# Altium integrated library Texas Instruments Interface 1394.IntLib: 47 symbols (part 15 of 17)
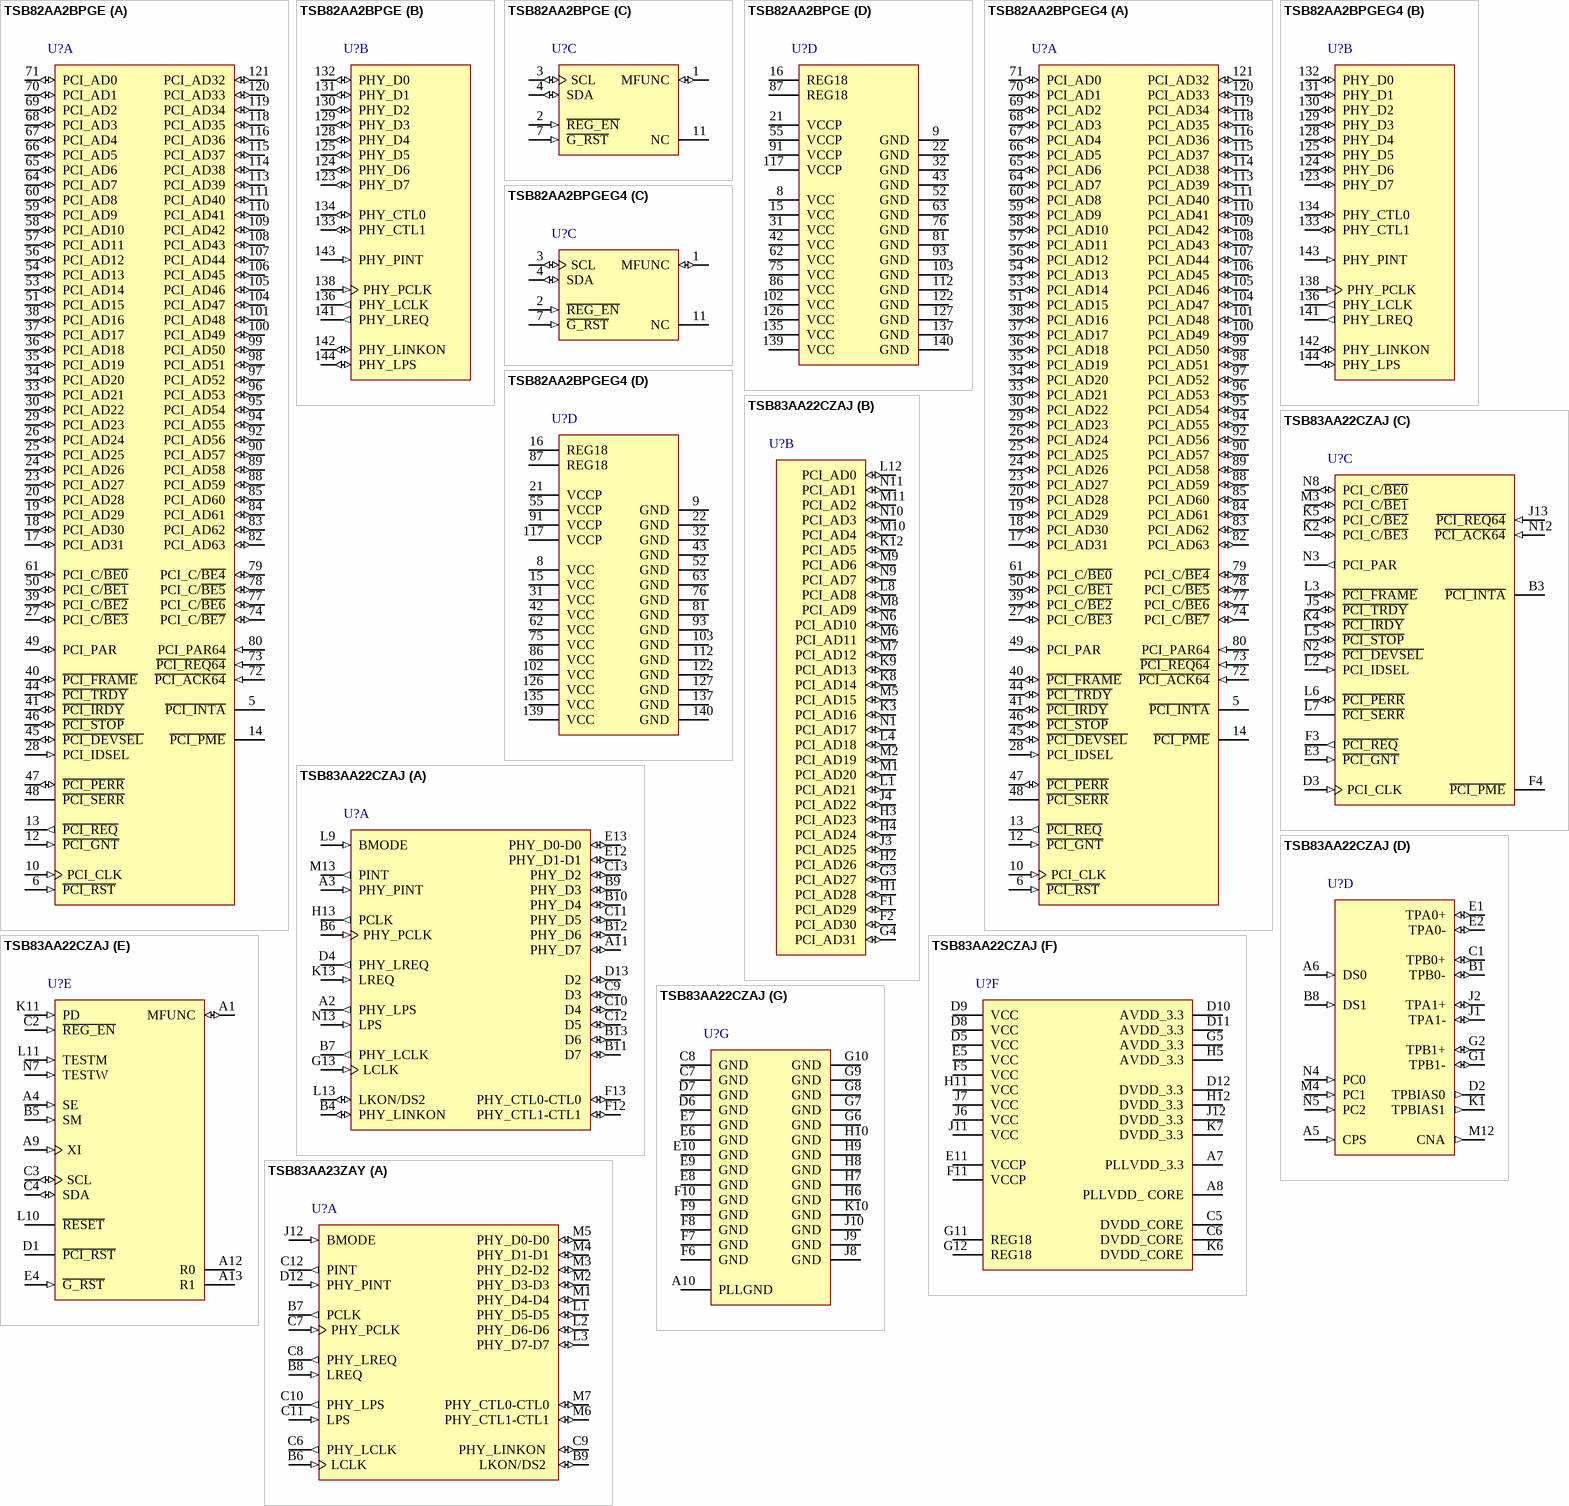
[diagram p25: symbols TSB82AA2BPGE to TSB83AA23ZAY]

## TSB83AA22CZAJ
designator U?
IEEE Std 1394b-2002 PHY and OHCI Link Device, 168-Pin NFBGA (ZAJ), Pb-Free (RoHS); PartNumber: TSB83AA22CZAJ; Manufacturer: Texas Instruments; SubFamily: 1394 Integrated Device; Speed(Max)(Mbps): 800; FIFO(kb): 9; Rating: Catalog; DatasheetVersion: SLLS802; PackageVersion: revD, Aug-2008; PackageReference: ZAJ168; PackageDescription: 168-Ball Plastic Ball Grid Array, 7 x 7 mm Body, 0.5 mm Pitch; Mounting Technology: Surface Mount; ComponentLink1Description: Datasheet; ComponentLink1URL: http://www.ti.com/general/docs/lit/getliterature.tsp?genericPartNumber=TSB83AA22C&fileType=pdf; ComponentLink2Description: Package Specification; ComponentLink2URL: http://www.ti.com/litv/pdf/mpbg703c
footprint TI-ZAJ168 (BGA, 168-Leads, Body 7x7mm, Pitch 0.5mm)
part A pins: A2 PHY_LPS (out) "LLC-section power status. [see datasheet]", A3 PHY_PINT (in) "PHY-section interrupt. PHY_PINT is a serial input to the LLC section from the PHY section that is used to transfer status, register, interrupt, and other information to the link. [see datasheet]", A11 PHY_D7 (io) "Data I/Os. These bidirectional data bus signals carry 1394 packet data, packet speed, and grant-type information between the PHY section and the LLC section. [see datasheet]", B4 PHY_LINKON (io) "Link-on notification. [see datasheet]", B6 PHY_PCLK (in) "PHY-section clock. PHY_PCLK is an input to the LLC section from the PHY section that, when active, provides a nominal 98. [see datasheet]", B7 PHY_LCLK (out) "LLC-section clock. PHY_LCLK is an output from the LLC section that is generated from the incoming PHY_PCLK signal. [see datasheet]", B9 PHY_D3 (io) "Data I/Os. These bidirectional data bus signals carry 1394 packet data, packet speed, and grant-type information between the PHY section and the LLC section. [see datasheet]", B10 PHY_D4 (io) "Data I/Os. These bidirectional data bus signals carry 1394 packet data, packet speed, and grant-type information between the PHY section and the LLC section. [see datasheet]", B11 D7 (io) "Data I/Os. These bidirectional data bus signals carry 1394 packet data, packet speed, and grant-type information between the PHY section and the LLC section. [see datasheet]", B12 PHY_D6 (io) "Data I/Os. These bidirectional data bus signals carry 1394 packet data, packet speed, and grant-type information between the PHY section and the LLC section. [see datasheet]", B13 D6 (io) "Data I/Os. These bidirectional data bus signals carry 1394 packet data, packet speed, and grant-type information between the PHY section and the LLC section. [see datasheet]", C9 D3 (io) "Data I/Os. These bidirectional data bus signals carry 1394 packet data, packet speed, and grant-type information between the PHY section and the LLC section. [see datasheet]", C10 D4 (io) "Data I/Os. These bidirectional data bus signals carry 1394 packet data, packet speed, and grant-type information between the PHY section and the LLC section. [see datasheet]", C11 PHY_D5 (io) "Data I/Os. These bidirectional data bus signals carry 1394 packet data, packet speed, and grant-type information between the PHY section and the LLC section. [see datasheet]", C12 D5 (io) "Data I/Os. These bidirectional data bus signals carry 1394 packet data, packet speed, and grant-type information between the PHY section and the LLC section. [see datasheet]", C13 PHY_D2 (io) "Data I/Os. These bidirectional data bus signals carry 1394 packet data, packet speed, and grant-type information between the PHY section and the LLC section. [see datasheet]", D4 PHY_LREQ (out) "LLC-section request. [see datasheet]", D13 D2 (io) "Data I/Os. These bidirectional data bus signals carry 1394 packet data, packet speed, and grant-type information between the PHY section and the LLC section. [see datasheet]", E12 PHY_D1-D1 (io) "Data I/Os. These bidirectional data bus signals carry 1394 packet data, packet speed, and grant-type information between the PHY section and the LLC section. [see datasheet]", E13 PHY_D0-D0 (io) "Data I/Os. These bidirectional data bus signals carry 1394 packet data, packet speed, and grant-type information between the PHY section and the LLC section. [see datasheet]", F12 PHY_CTL1-CTL1 (io) "Control I/Os. These bidirectional control bus signals indicate the phase of operation of the PHY section-LLC section interface. [see datasheet]", F13 PHY_CTL0-CTL0 (io) "Control I/Os. These bidirectional control bus signals indicate the phase of operation of the PHY section-LLC section interface. [see datasheet]", G13 LCLK (in) "LLC-section clock. 98.304-MHz clock signal to synchronize data transfers from link to the PHY when the PHY section-LLC section interface is in the IEEE Std 1394b-2002 mode. [see datasheet]", H13 PCLK (out) "PHY-section clock. Provides a 98. [see datasheet]", K13 LREQ (in) "LLC-section request. The LLC section uses this input to initiate a service request to the PHY section. This terminal must be connected to the PHY_LREQ output of the LLC section. [see datasheet]", L9 BMODE (in) "Beta-mode. This terminal determines the PHY section-LLC section interface connection protocol. [see datasheet]", L13 LKON/DS2 (io) "Link-on notification. It is necessary to pull the terminal high through a 470-W or smaller resistor. [see datasheet]", M13 PINT (out) "PHY-section interrupt. The PHY section uses this output to transfer status and interrupt information serially to the LLC section. [see datasheet]", N13 LPS (in) "LLC-section power status. This terminal monitors the active/power status of the LLC section and controls the state of the PHY section-LLC section interface. [see datasheet]"
part B pins: F1 PCI_AD29 (io) "PCI address/data bus. These signals make up the multiplexed PCI address and data on the PCI interface. [see datasheet]", F2 PCI_AD30 (io) "PCI address/data bus. These signals make up the multiplexed PCI address and data on the PCI interface. [see datasheet]", G3 PCI_AD27 (io) "PCI address/data bus. These signals make up the multiplexed PCI address and data on the PCI interface. [see datasheet]", G4 PCI_AD31 (io) "PCI address/data bus. These signals make up the multiplexed PCI address and data on the PCI interface. [see datasheet]", H1 PCI_AD28 (io) "PCI address/data bus. These signals make up the multiplexed PCI address and data on the PCI interface. [see datasheet]", H2 PCI_AD26 (io) "PCI address/data bus. These signals make up the multiplexed PCI address and data on the PCI interface. [see datasheet]", H3 PCI_AD23 (io) "PCI address/data bus. These signals make up the multiplexed PCI address and data on the PCI interface. [see datasheet]", H4 PCI_AD24 (io) "PCI address/data bus. These signals make up the multiplexed PCI address and data on the PCI interface. [see datasheet]", J3 PCI_AD25 (io) "PCI address/data bus. These signals make up the multiplexed PCI address and data on the PCI interface. [see datasheet]", J4 PCI_AD22 (io) "PCI address/data bus. These signals make up the multiplexed PCI address and data on the PCI interface. [see datasheet]", K3 PCI_AD16 (io) "PCI address/data bus. These signals make up the multiplexed PCI address and data on the PCI interface. [see datasheet]", K8 PCI_AD14 (io) "PCI address/data bus. These signals make up the multiplexed PCI address and data on the PCI interface. [see datasheet]", K9 PCI_AD13 (io) "PCI address/data bus. These signals make up the multiplexed PCI address and data on the PCI interface. [see datasheet]", K12 PCI_AD5 (io) "PCI address/data bus. These signals make up the multiplexed PCI address and data on the PCI interface. [see datasheet]", L1 PCI_AD21 (io) "PCI address/data bus. These signals make up the multiplexed PCI address and data on the PCI interface. [see datasheet]", L4 PCI_AD18 (io) "PCI address/data bus. These signals make up the multiplexed PCI address and data on the PCI interface. [see datasheet]", L8 PCI_AD8 (io) "PCI address/data bus. These signals make up the multiplexed PCI address and data on the PCI interface. [see datasheet]", L12 PCI_AD0 (io) "PCI address/data bus. These signals make up the multiplexed PCI address and data on the PCI interface. [see datasheet]", M1 PCI_AD20 (io) "PCI address/data bus. These signals make up the multiplexed PCI address and data on the PCI interface. [see datasheet]", M2 PCI_AD19 (io) "PCI address/data bus. These signals make up the multiplexed PCI address and data on the PCI interface. [see datasheet]", M5 PCI_AD15 (io) "PCI address/data bus. These signals make up the multiplexed PCI address and data on the PCI interface. [see datasheet]", M6 PCI_AD11 (io) "PCI address/data bus. These signals make up the multiplexed PCI address and data on the PCI interface. [see datasheet]", M7 PCI_AD12 (io) "PCI address/data bus. These signals make up the multiplexed PCI address and data on the PCI interface. [see datasheet]", M8 PCI_AD9 (io) "PCI address/data bus. These signals make up the multiplexed PCI address and data on the PCI interface. [see datasheet]", M9 PCI_AD6 (io) "PCI address/data bus. These signals make up the multiplexed PCI address and data on the PCI interface. [see datasheet]", M10 PCI_AD4 (io) "PCI address/data bus. These signals make up the multiplexed PCI address and data on the PCI interface. [see datasheet]", M11 PCI_AD2 (io) "PCI address/data bus. These signals make up the multiplexed PCI address and data on the PCI interface. [see datasheet]", N1 PCI_AD17 (io) "PCI address/data bus. These signals make up the multiplexed PCI address and data on the PCI interface. [see datasheet]", N6 PCI_AD10 (io) "PCI address/data bus. These signals make up the multiplexed PCI address and data on the PCI interface. [see datasheet]", N9 PCI_AD7 (io) "PCI address/data bus. These signals make up the multiplexed PCI address and data on the PCI interface. [see datasheet]", N10 PCI_AD3 (io) "PCI address/data bus. These signals make up the multiplexed PCI address and data on the PCI interface. [see datasheet]", N11 PCI_AD1 (io) "PCI address/data bus. These signals make up the multiplexed PCI address and data on the PCI interface. [see datasheet]"
part C pins: B3 ~{PCI_INTA} (oc) "PCI interrupt. This output indicates interrupts from the TSB83AA22C device to the host. This terminal is implemented as open drain.", D3 PCI_CLK (in) "PCI bus clock. Provides timing for all transactions on the PCI bus. All PCI signals are sampled at the rising edge of PCI_CLK.", E3 ~{PCI_GNT} (in) "PCI bus grant. This signal is driven by the PCI bus arbiter to grant the TSB83AA22C device access to the PCI bus after the current data transaction has completed. [see datasheet]", F3 ~{PCI_REQ} (out) "PCI bus request. Asserted by the TSB83AA22C device to request access to the bus as an initiator. [see datasheet]", F4 ~{PCI_PME} (oc) "This terminal indicates wake events to the host. [see datasheet]", J5 ~{PCI_TRDY} (io) "PCI target ready. P\C\I\_\T\R\D\Y\ indicates the ability of the PCI bus target to complete the current data phase of the transaction. [see datasheet]", J13 ~{PCI_REQ64} (in) "PCI bus request for 64-bit transfer. This terminal should be pulled high to VDD through a 4.7-kohm resistor.", K2 PCI_C/~{BE3} (io) "PCI bus commands and byte enables. The command and byte enable signals are multiplexed on the same PCI terminals. [see datasheet]", K4 ~{PCI_IRDY} (io) "PCI initiator ready. P\C\I\_\I\R\D\Y\ indicates the ability of the PCI bus initiator to complete the current data phase of the transaction. [see datasheet]", K5 PCI_C/~{BE2} (io) "PCI bus commands and byte enables. The command and byte enable signals are multiplexed on the same PCI terminals. [see datasheet]", L2 PCI_IDSEL (in) "PCI initialization device select. PCI_IDSEL selects the TSB83AA22C device during configuration space accesses. [see datasheet]", L3 ~{PCI_FRAME} (io) "PCI cycle frame. This signal is driven by the initiator of a PCI bus cycle. [see datasheet]", L5 ~{PCI_STOP} (io) "PCI cycle stop. This signal is driven by a PCI target to request the initiator to stop the current PCI bus transaction. [see datasheet]", L6 ~{PCI_PERR} (io) "PCI parity error indicator. [see datasheet]", L7 ~{PCI_SERR} (oc) "PCI system error. When SERR_ENB (bit 8) in the command register at offset 04h in the PCI configuration space (see Section 6.1. [see datasheet]", M3 PCI_C/~{BE1} (io) "PCI bus commands and byte enables. The command and byte enable signals are multiplexed on the same PCI terminals. [see datasheet]", N2 ~{PCI_DEVSEL} (io) "PCI device select. The TSB83AA22C device asserts this signal to claim a PCI cycle as the target device. [see datasheet]", N3 PCI_PAR (out) "PCI parity. In all PCI bus read and write cycles, the TSB83AA22C device calculates even parity across the PCI_AD31-PCI_AD0 and PCI_C/B\E\0\-PCI_C/B\E\3\ buses. [see datasheet]", N8 PCI_C/~{BE0} (io) "PCI bus commands and byte enables. The command and byte enable signals are multiplexed on the same PCI terminals. [see datasheet]", N12 ~{PCI_ACK64} (in) "PCI bus 64-bit transfer acknowledge. This terminal should be pulled high to VDD through a 4.7-kohm resistor."
part D pins: A5 CPS (in) "Cable power status. This terminal is normally connected to cable power through a 400-kohm resistor. This circuit drives an internal comparator that detects the presence of cable power. [see datasheet]", A6 DS0 (in) "Data-strobe-only mode for port 0. IEEE Std 1394a-2000-only port-0-enable programming terminal. [see datasheet]", B1 TPB0- (io) "Port 0 twisted-pair differential signal. [see datasheet]", B8 DS1 (in) "Data-strobe-only mode for port 1. IEEE Std 1394a-2000-only port-1-enable programming terminal. [see datasheet]", C1 TPB0+ (io) "Port 0 twisted-pair differential signal. [see datasheet]", D2 TPBIAS0 (out) "Twisted-pair bias output. This provides the 1. [see datasheet]", E1 TPA0+ (io) "Port 0 twisted-pair differential signal. [see datasheet]", E2 TPA0- (io) "Port 0 twisted-pair differential signal. [see datasheet]", G1 TPB1- (io) "Port 1 twisted-pair differential signal. [see datasheet]", G2 TPB1+ (io) "Port 1 twisted-pair differential signal. [see datasheet]", J1 TPA1- (io) "Port 1 twisted-pair differential signal. [see datasheet]", J2 TPA1+ (io) "Port 1 twisted-pair differential signal. [see datasheet]", K1 TPBIAS1 (out) "Twisted-pair bias output. This provides the 1. [see datasheet]", M4 PC1 (in) "Power class programming. On hardware reset, these inputs set the default value of the power class indicated during self-ID. [see datasheet]", M12 CNA (out) "Cable not active. This terminal is asserted high when there are no ports receiving incoming bias voltage. When any port receives bias, this terminal goes low.", N4 PC0 (in) "Power class programming. On hardware reset, these inputs set the default value of the power class indicated during self-ID. [see datasheet]", N5 PC2 (in) "Power class programming. On hardware reset, these inputs set the default value of the power class indicated during self-ID. [see datasheet]"
part E pins: A1 MFUNC (io) "Multifunction. [see datasheet]", A4 SE (in) "Test control. This input is used in the manufacturing test of the TSB83AA22C. [see datasheet]", A9 XI (in) "Oscillator input. This terminal connects to a 98.304-MHz low-jitter external oscillator. XI is a 1.8-V CMOS input. Oscillator jitter must be 5-ps RMS or better. If only 3. [see datasheet]", A12 R0 "Current-setting resistor. These terminals are connected to a precision external resistance to set the internal operating currents and cable driver output currents. A resistance of 6. [see datasheet]", A13 R1 "Current-setting resistor. These terminals are connected to a precision external resistance to set the internal operating currents and cable driver output currents. A resistance of 6. [see datasheet]", B5 SM (in) "Test control. This input is used in the manufacturing test of the TSB83AA22C. [see datasheet]", C2 ~{REG_EN} (in) "Regulator enable. When this terminal is low, the internal 1.8-V regulator is enabled and generates the 1.8-V internal core voltage from the 3.3-V supply voltage. [see datasheet]", C3 SCL (io) "Serial clock. This terminal provides the SCL serial clock signaling. ROM is implemented: Connect terminal 3 to the SCL terminal on the ROM; the 2. [see datasheet]", C4 SDA (io) "Serial data. This terminal provides the SDA serial data signaling. [see datasheet]", D1 ~{PCI_RST} (hiz) "PCI reset. [see datasheet]", E4 ~{G_RST} (in) "Global power reset. This reset brings all of the TSB83AA22C internal LLC-section registers to their default states, including those registers not reset by P\C\I\_\R\S\T\. [see datasheet]", K11 PD (in) "Power down. A high on this terminal turns off all internal circuitry, except the cable-active monitor circuits that control the CNA output. [see datasheet]", L10 ~{RESET} (oc) "Logic reset. Asserting this terminal low resets the internal logic. [see datasheet]", L11 TESTM (in) "Test control. This input is used in the manufacturing test of the TSB83AA22C. For normal use, this terminal must be pulled high through a 1-kohm resistor to VDD.", N7 TESTW (in) "Test control. This input is used in the manufacturing test of the TSB83AA22C. For normal use, this terminal must be pulled high through a 1-kohm resistor to VDD."
part F pins: A7 PLLVDD_3.3 (power) "PLL 3.3-V circuit power. A combination of high-frequency decoupling capacitors near the terminal is suggested, such as paralleled 0.1-mF and 0.001-mF. [see datasheet]", A8 PLLVDD_ CORE (power) "PLL 1.95-V circuit power. A combination of high-frequency decoupling capacitors near each terminal is suggested, such as paralleled 0.1-mF and 0.001-mF. [see datasheet]", C5 DVDD_CORE (power) "Digital 1.95-V circuit power. A combination of high-frequency decoupling capacitors near each terminal is suggested, such as paralleled 0.1-uF and 0.001-uF. [see datasheet]", C6 DVDD_CORE (power) "Digital 1.95-V circuit power. A combination of high-frequency decoupling capacitors near each terminal is suggested, such as paralleled 0.1-uF and 0.001-uF. [see datasheet]", D5 VCC (power) "3.3-V power supply. A parallel combination of high-frequency decoupling capacitors near each terminal is suggested, such as 0.1-uF and 0.001-uF. [see datasheet]", D8 VCC (power) "3.3-V power supply. A parallel combination of high-frequency decoupling capacitors near each terminal is suggested, such as 0.1-uF and 0.001-uF. [see datasheet]", D9 VCC (power) "3.3-V power supply. A parallel combination of high-frequency decoupling capacitors near each terminal is suggested, such as 0.1-uF and 0.001-uF. [see datasheet]", D10 AVDD_3.3 (power) "Analog circuit power. A combination of high-frequency decoupling capacitors near each terminal is suggested, such as paralleled 0.1-uF and 0.001-uF. [see datasheet]", D11 AVDD_3.3 (power) "Analog circuit power. A combination of high-frequency decoupling capacitors near each terminal is suggested, such as paralleled 0.1-uF and 0.001-uF. [see datasheet]", D12 DVDD_3.3 (power) "Digital 3.3-V circuit power. A combination of high-frequency decoupling capacitors near each terminal is suggested, such as paralleled 0.1-uF and 0.001-uF.. [see datasheet]", E5 VCC (power) "3.3-V power supply. A parallel combination of high-frequency decoupling capacitors near each terminal is suggested, such as 0.1-uF and 0.001-uF. [see datasheet]", E11 VCCP (power) "PCI signaling clamp voltage power. PCI signals are clamped per the PCI Local Bus Specification. In addition, if a 5-V ROM is used, the VCCP terminal must be connected to 5 V.", F5 VCC (power) "3.3-V power supply. A parallel combination of high-frequency decoupling capacitors near each terminal is suggested, such as 0.1-uF and 0.001-uF. [see datasheet]", F11 VCCP (power) "PCI signaling clamp voltage power. PCI signals are clamped per the PCI Local Bus Specification. In addition, if a 5-V ROM is used, the VCCP terminal must be connected to 5 V", G5 AVDD_3.3 (power) "Analog circuit power. A combination of high-frequency decoupling capacitors near each terminal is suggested, such as paralleled 0.1-uF and 0.001-uF. [see datasheet]", G11 REG18 (power) "The REG18 terminals are connected to the internal 1.8-V LLC-section core voltage. They provide local bypass for the internal core voltage or to provide 1. [see datasheet]", G12 REG18 (power) "The REG18 terminals are connected to the internal 1.8-V LLC-section core voltage. They provide local bypass for the internal core voltage or to provide 1. [see datasheet]", H5 AVDD_3.3 (power) "Analog circuit power. A combination of high-frequency decoupling capacitors near each terminal is suggested, such as paralleled 0.1-uF and 0.001-uF. [see datasheet]", H11 VCC (power) "3.3-V power supply. A parallel combination of high-frequency decoupling capacitors near each terminal is suggested, such as 0.1-uF and 0.001-uF. [see datasheet]", H12 DVDD_3.3 (power) "Digital 3.3-V circuit power. A combination of high-frequency decoupling capacitors near each terminal is suggested, such as paralleled 0.1-uF and 0.001-uF.. [see datasheet]", J6 VCC (power) "3.3-V power supply. A parallel combination of high-frequency decoupling capacitors near each terminal is suggested, such as 0.1-uF and 0.001-uF. [see datasheet]", J7 VCC (power) "3.3-V power supply. A parallel combination of high-frequency decoupling capacitors near each terminal is suggested, such as 0.1-uF and 0.001-uF. [see datasheet]", J11 VCC (power) "3.3-V power supply. A parallel combination of high-frequency decoupling capacitors near each terminal is suggested, such as 0.1-uF and 0.001-uF. [see datasheet]", J12 DVDD_3.3 (power) "Digital 3.3-V circuit power. A combination of high-frequency decoupling capacitors near each terminal is suggested, such as paralleled 0.1-uF and 0.001-uF.. [see datasheet]", K6 DVDD_CORE (power) "Digital 1.95-V circuit power. A combination of high-frequency decoupling capacitors near each terminal is suggested, such as paralleled 0.1-uF and 0.001-uF. [see datasheet]", K7 DVDD_3.3 (power) "Digital 3.3-V circuit power. A combination of high-frequency decoupling capacitors near each terminal is suggested, such as paralleled 0.1-uF and 0.001-uF.. [see datasheet]"
part G pins: A10 PLLGND (power) "PLL circuit ground. These terminals must be tied together to the low-impedance circuit-board ground plane.", C7 GND (power) "Ground. These terminals must be tied together to the low-impedance circuit-board ground plane.", C8 GND (power) "Ground. These terminals must be tied together to the low-impedance circuit-board ground plane.", D6 GND (power) "Ground. These terminals must be tied together to the low-impedance circuit-board ground plane.", D7 GND (power) "Ground. These terminals must be tied together to the low-impedance circuit-board ground plane.", E6 GND (power) "Ground. These terminals must be tied together to the low-impedance circuit-board ground plane.", E7 GND (power) "Ground. These terminals must be tied together to the low-impedance circuit-board ground plane.", E8 GND (power) "Ground. These terminals must be tied together to the low-impedance circuit-board ground plane.", E9 GND (power) "Ground. These terminals must be tied together to the low-impedance circuit-board ground plane.", E10 GND (power) "Ground. These terminals must be tied together to the low-impedance circuit-board ground plane.", F6 GND (power) "Ground. These terminals must be tied together to the low-impedance circuit-board ground plane.", F7 GND (power) "Ground. These terminals must be tied together to the low-impedance circuit-board ground plane.", F8 GND (power) "Ground. These terminals must be tied together to the low-impedance circuit-board ground plane.", F9 GND (power) "Ground. These terminals must be tied together to the low-impedance circuit-board ground plane.", F10 GND (power) "Ground. These terminals must be tied together to the low-impedance circuit-board ground plane.", G6 GND (power) "Ground. These terminals must be tied together to the low-impedance circuit-board ground plane.", G7 GND (power) "Ground. These terminals must be tied together to the low-impedance circuit-board ground plane.", G8 GND (power) "Ground. These terminals must be tied together to the low-impedance circuit-board ground plane.", G9 GND (power) "Ground. These terminals must be tied together to the low-impedance circuit-board ground plane.", G10 GND (power) "Ground. These terminals must be tied together to the low-impedance circuit-board ground plane.", H6 GND (power) "Ground. These terminals must be tied together to the low-impedance circuit-board ground plane.", H7 GND (power) "Ground. These terminals must be tied together to the low-impedance circuit-board ground plane.", H8 GND (power) "Ground. These terminals must be tied together to the low-impedance circuit-board ground plane.", H9 GND (power) "Ground. These terminals must be tied together to the low-impedance circuit-board ground plane.", H10 GND (power) "Ground. These terminals must be tied together to the low-impedance circuit-board ground plane.", J8 GND (power) "Ground. These terminals must be tied together to the low-impedance circuit-board ground plane.", J9 GND (power) "Ground. These terminals must be tied together to the low-impedance circuit-board ground plane.", J10 GND (power) "Ground. These terminals must be tied together to the low-impedance circuit-board ground plane.", K10 GND (power) "Ground. These terminals must be tied together to the low-impedance circuit-board ground plane."

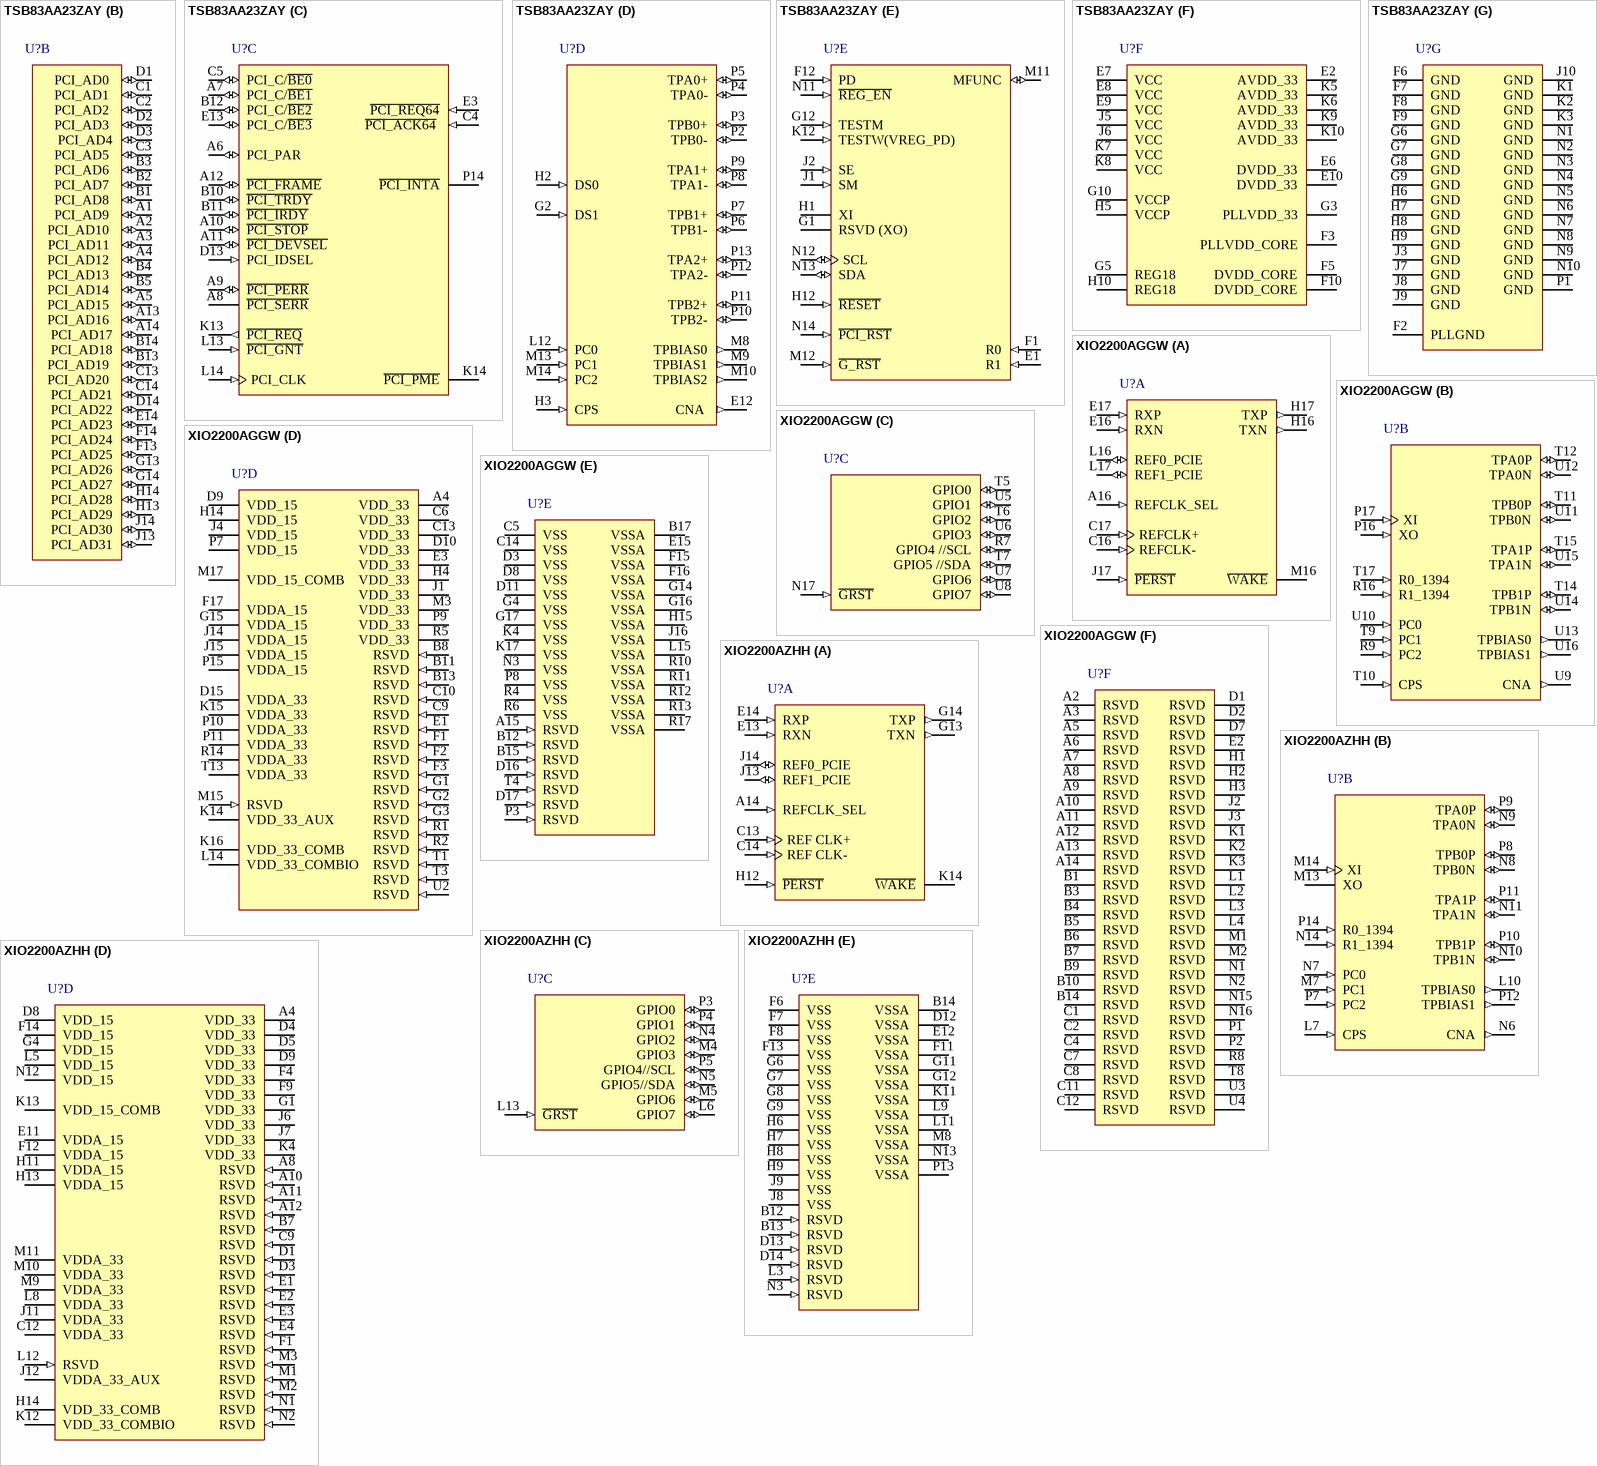
[diagram p9: symbols TSB83AA23ZAY to XIO2200AZHH]

## TSB83AA23ZAY
designator U?
IEEE Std 1394b-2002 PHY and OHCI Link Device, 0 to 70 degC, 167-Pin NFBGA (ZAY), Pb-Free (RoHS); PartNumber: TSB83AA23ZAY; Manufacturer: Texas Instruments; SubFamily: 1394 Integrated Device; Speed(Max)(Mbps): 800; FIFO(kb): 9; Rating: Catalog; DatasheetVersion: SLLU099B; PackageVersion: revC, Sep-2010; PackageReference: ZAY167; PackageDescription: 167-Ball Plastic Ball Grid Array, 12 x 12 mm Body, 0.8 mm Pitch; Mounting Technology: Surface Mount; Operating Temperature Range(C): 0 to 70; ComponentLink1Description: Datasheet; ComponentLink1URL: http://www.ti.com/general/docs/lit/getliterature.tsp?genericPartNumber=TSB83AA23&fileType=pdf; ComponentLink2Description: Package Specification; ComponentLink2URL: http://www.ti.com/litv/pdf/mpbg782b
footprint TI-ZAY167 (BGA, 167-Leads, Body 12x12mm, Pitch 0.8mm)
part A pins: B6 LCLK  (in) "LLC-section clock. 98.304-MHz clock signal to synchronize data transfers from the link layer to the PHY when the PHY section-LLC section interface is in the IEEE Std 1394b-2002 mode. [see datasheet]", B7 PCLK  (out) "PHY-section clock. Provides a 98. [see datasheet]", B8 LREQ  (in) "LLC-section request. The LLC section uses this input to initiate a service request to the PHY section. This terminal must be connected to the PHY_LREQ output of the LLC section. [see datasheet]", B9 LKON/DS2  (io) "Link-on notification/Data-Strobe-only select. It is necessary to pull the terminal high through a 470-W or smaller resistor. [see datasheet]", C6 PHY_LCLK  (out) "LLC-section clock. PHY_LCLK is an output from the LLC section that is generated from the incoming PHY_PCLK signal. [see datasheet]", C7 PHY_PCLK  (in) "PHY-section clock. PHY_PCLK is an input to the LLC section from the PHY section that, when active, provides a nominal 98. [see datasheet]", C8 PHY_LREQ  (out) "LLC-section request. [see datasheet]", C9 PHY_LINKON  (io) "Link-on notification. [see datasheet]", C10 PHY_LPS  (out) "LLC-section power status. [see datasheet]", C11 LPS  (in) "LLC-section power status. This terminal monitors the active/power status of the LLC section and controls the state of the PHY section-LLC section interface. [see datasheet]", C12 PINT  (out) "PHY-section interrupt. The PHY section uses this output to transfer status and interrupt information serially to the LLC section. [see datasheet]", D12 PHY_PINT  (in) "PHY-section interrupt. PHY_PINT is a serial input to the LLC section from the PHY section that is used to transfer status, register, interrupt, and other information to the link. [see datasheet]", J12 BMODE (in) "Beta-mode. This terminal determines the PHY section-LLC section interface connection protocol. [see datasheet]", L1 PHY_D5-D5 (io) "Data I/Os. These bidirectional data bus signals carry 1394 packet data, packet speed, and grant-type information between the PHY section and the LLC section. [see datasheet]", L2 PHY_D6-D6 (io) "Data I/Os. These bidirectional data bus signals carry 1394 packet data, packet speed, and grant-type information between the PHY section and the LLC section. [see datasheet]", L3 PHY_D7-D7 (io) "Data I/Os. These bidirectional data bus signals carry 1394 packet data, packet speed, and grant-type information between the PHY section and the LLC section. [see datasheet]", M1 PHY_D4-D4 (io) "Data I/Os. These bidirectional data bus signals carry 1394 packet data, packet speed, and grant-type information between the PHY section and the LLC section. [see datasheet]", M2 PHY_D3-D3 (io) "Data I/Os. These bidirectional data bus signals carry 1394 packet data, packet speed, and grant-type information between the PHY section and the LLC section. [see datasheet]", M3 PHY_D2-D2 (io) "Data I/Os. These bidirectional data bus signals carry 1394 packet data, packet speed, and grant-type information between the PHY section and the LLC section. [see datasheet]", M4 PHY_D1-D1 (io) "Data I/Os. These bidirectional data bus signals carry 1394 packet data, packet speed, and grant-type information between the PHY section and the LLC section. [see datasheet]", M5 PHY_D0-D0 (io) "Data I/Os. These bidirectional data bus signals carry 1394 packet data, packet speed, and grant-type information between the PHY section and the LLC section. [see datasheet]", M6 PHY_CTL1-CTL1 (io) "Control I/Os. These bidirectional control bus signals indicate the phase of operation of the  PHY section-LLC section interface. [see datasheet]", M7 PHY_CTL0-CTL0 (io) "Control I/Os. These bidirectional control bus signals indicate the phase of operation of the  PHY section-LLC section interface. [see datasheet]"
part B pins: A1 PCI_AD9  (io) "PCI address/data bus.These signals make up the multiplexed PCI address and data on the PCI interface. [see datasheet]", A2 PCI_AD10  (io) "PCI address/data bus.These signals make up the multiplexed PCI address and data on the PCI interface. [see datasheet]", A3 PCI_AD11  (io) "PCI address/data bus.These signals make up the multiplexed PCI address and data on the PCI interface. [see datasheet]", A4 PCI_AD12  (io) "PCI address/data bus.These signals make up the multiplexed PCI address and data on the PCI interface. [see datasheet]", A5 PCI_AD15  (io) "PCI address/data bus.These signals make up the multiplexed PCI address and data on the PCI interface. [see datasheet]", A13 PCI_AD16  (io) "PCI address/data bus.These signals make up the multiplexed PCI address and data on the PCI interface. [see datasheet]", A14 PCI_AD17 (io) "PCI address/data bus.These signals make up the multiplexed PCI address and data on the PCI interface. [see datasheet]", B1 PCI_AD8  (io) "PCI address/data bus.These signals make up the multiplexed PCI address and data on the PCI interface. [see datasheet]", B2 PCI_AD7  (io) "PCI address/data bus.These signals make up the multiplexed PCI address and data on the PCI interface. [see datasheet]", B3 PCI_AD6  (io) "PCI address/data bus.These signals make up the multiplexed PCI address and data on the PCI interface. [see datasheet]", B4 PCI_AD13  (io) "PCI address/data bus.These signals make up the multiplexed PCI address and data on the PCI interface. [see datasheet]", B5 PCI_AD14  (io) "PCI address/data bus.These signals make up the multiplexed PCI address and data on the PCI interface. [see datasheet]", B13 PCI_AD19  (io) "PCI address/data bus.These signals make up the multiplexed PCI address and data on the PCI interface. [see datasheet]", B14 PCI_AD18 (io) "PCI address/data bus.These signals make up the multiplexed PCI address and data on the PCI interface. [see datasheet]", C1 PCI_AD1  (io) "PCI address/data bus.These signals make up the multiplexed PCI address and data on the PCI interface. [see datasheet]", C2 PCI_AD2  (io) "PCI address/data bus.These signals make up the multiplexed PCI address and data on the PCI interface. [see datasheet]", C3 PCI_AD5  (io) "PCI address/data bus.These signals make up the multiplexed PCI address and data on the PCI interface. [see datasheet]", C13 PCI_AD20  (io) "PCI address/data bus.These signals make up the multiplexed PCI address and data on the PCI interface. [see datasheet]", C14 PCI_AD21 (io) "PCI address/data bus.These signals make up the multiplexed PCI address and data on the PCI interface. [see datasheet]", D1 PCI_AD0  (io) "PCI address/data bus.These signals make up the multiplexed PCI address and data on the PCI interface. [see datasheet]", D2 PCI_AD3  (io) "PCI address/data bus.These signals make up the multiplexed PCI address and data on the PCI interface. [see datasheet]", D3 PCI_AD4 (io) "PCI address/data bus.These signals make up the multiplexed PCI address and data on the PCI interface. [see datasheet]", D14 PCI_AD22 (io) "PCI address/data bus.These signals make up the multiplexed PCI address and data on the PCI interface. [see datasheet]", E14 PCI_AD23 (io) "PCI address/data bus.These signals make up the multiplexed PCI address and data on the PCI interface. [see datasheet]", F13 PCI_AD25 (io) "PCI address/data bus.These signals make up the multiplexed PCI address and data on the PCI interface. [see datasheet]", F14 PCI_AD24 (io) "PCI address/data bus.These signals make up the multiplexed PCI address and data on the PCI interface. [see datasheet]", G13 PCI_AD26 (io) "PCI address/data bus.These signals make up the multiplexed PCI address and data on the PCI interface. [see datasheet]", G14 PCI_AD27 (io) "PCI address/data bus.These signals make up the multiplexed PCI address and data on the PCI interface. [see datasheet]", H13 PCI_AD29 (io) "PCI address/data bus.These signals make up the multiplexed PCI address and data on the PCI interface. [see datasheet]", H14 PCI_AD28 (io) "PCI address/data bus.These signals make up the multiplexed PCI address and data on the PCI interface. [see datasheet]", J13 PCI_AD31 (io) "PCI address/data bus.These signals make up the multiplexed PCI address and data on the PCI interface. [see datasheet]", J14 PCI_AD30 (io) "PCI address/data bus.These signals make up the multiplexed PCI address and data on the PCI interface. [see datasheet]"
part C pins: A6 PCI_PAR  (io) "PCI parity. In all PCI bus read and write cycles, the TSB83AA23 device calculates even parity across the PCI_AD31-PCI_AD0 and PCI_C/B\E\0\-PCI_C/B\E\3\ buses. [see datasheet]", A7 PCI_C/~{BE1}  (io) "PCI bus commands and byte enables. The command and byte enable signals are multiplexed on the same PCI terminals. [see datasheet]", A8 ~{PCI_SERR}  (oc) "PCI system error. When SERR_ENB (bit 8) in the command register at offset 04h in the PCI configuration space (see Section 6.1. [see datasheet]", A9 ~{PCI_PERR}  (io) "PCI parity error indicator. [see datasheet]", A10 ~{PCI_STOP} (io) "PCI cycle stop. This signal is driven by a PCI target to request the initiator to stop the current PCI bus transaction. [see datasheet]", A11 ~{PCI_DEVSEL} (io) "PCI device select. The TSB83AA23 device asserts this signal to claim a PCI cycle as the target device. [see datasheet]", A12 ~{PCI_FRAME}  (io) "PCI cycle frame. This signal is driven by the initiator of a PCI bus cycle. [see datasheet]", B10 ~{PCI_TRDY}  (io) "PCI target ready. P\C\I\_\T\R\D\Y\ indicates the ability of the PCI bus target to complete the current data phase of the transaction. [see datasheet]", B11 ~{PCI_IRDY}  (io) "PCI initiator ready. P\C\I\_\I\R\D\Y\ indicates the ability of the PCI bus initiator to complete the current data phase of the transaction. [see datasheet]", B12 PCI_C/~{BE2}  (io) "PCI bus commands and byte enables. The command and byte enable signals are multiplexed on the same PCI terminals. [see datasheet]", C4 ~{PCI_ACK64}  (in) "PCI bus 64-bit transfer acknowledge. This terminal should be pulled high to VDD through a 4.7-kW resistor.", C5 PCI_C/~{BE0}  (io) "PCI bus commands and byte enables. The command and byte enable signals are multiplexed on the same PCI terminals. [see datasheet]", D13 PCI_IDSEL  (in) "PCI initialization device select. PCI_IDSEL selects the TSB83AA23 device during configuration space accesses. [see datasheet]", E3 ~{PCI_REQ64} (in) "PCI bus request for 64-bit transfer. This terminal should be pulled high to VDD through a 4.7-kW resistor.", E13 PCI_C/~{BE3}  (io) "PCI bus commands and byte enables. The command and byte enable signals are multiplexed on the same PCI terminals. [see datasheet]", K13 ~{PCI_REQ} (out) "PCI bus request. Asserted by the TSB83AA23 device to request access to the bus as an initiator. [see datasheet]", K14 ~{PCI_PME} (oc) "This terminal indicates wake events to the host. [see datasheet]", L13 ~{PCI_GNT} (in) "PCI bus grant. This signal is driven by the PCI bus arbiter to grant the TSB83AA23 device access to the PCI bus after the current data transaction has completed. [see datasheet]", L14 PCI_CLK (in) "PCI bus clock. Provides timing for all transactions on the PCI bus. All PCI signals are sampled at the rising edge of PCI_CLK.", P14 ~{PCI_INTA} (oc) "PCI interrupt. This output indicates interrupts from the TSB83AA23 device to the host. This terminal is implemented as open drain."
part D pins: E12 CNA  (out) "Cable not active. This terminal is asserted high when there are no ports receiving incoming bias voltage. When any port receives bias, this terminal goes low.", G2 DS1 (in) "Data-strobe-only mode for port 1. IEEE Std 1394a-2000-only port-1-enable programming terminal. [see datasheet]", H2 DS0 (in) "Data-strobe-only mode for port 0. IEEE Std 1394a-2000-only port-0-enable programming terminal. [see datasheet]", H3 CPS (in) "Cable power status. This terminal is normally connected to cable power through a 400-kW resistor. This circuit drives an internal comparator that detects the presence of cable power. [see datasheet]", L12 PC0 (in) "Global power reset. This reset brings all of the TSB83AA23 internal LLC-section registers to their default states, including those registers not reset by P\C\I\_\R\S\T\. [see datasheet]", M8 TPBIAS0 (out) "Twisted-pair bias output. This provides the 1. [see datasheet]", M9 TPBIAS1 (out) "Twisted-pair bias output. This provides the 1. [see datasheet]", M10 TPBIAS2 (out) "Twisted-pair bias output. This provides the 1. [see datasheet]", M13 PC1 (in) "Power class programming. On hardware reset, these inputs set the default value of the power class indicated during self-ID. [see datasheet]", M14 PC2 (in) "Power class programming. On hardware reset, these inputs set the default value of the power class indicated during self-ID. [see datasheet]", P2 TPB0- (io) "Port 0 twisted-pair differential signal. [see datasheet]", P3 TPB0+ (io) "Port 0 twisted-pair differential signal. [see datasheet]", P4 TPA0- (io) "Port 0 twisted-pair differential signal. [see datasheet]", P5 TPA0+ (io) "Port 0 twisted-pair differential signal. [see datasheet]", P6 TPB1- (io) "Port 1 twisted-pair differential signal. [see datasheet]", P7 TPB1+ (io) "Port 1 twisted-pair differential signal. [see datasheet]", P8 TPA1- (io) "Port 1 twisted-pair differential signal. [see datasheet]", P9 TPA1+ (io) "Port 1 twisted-pair differential signal. [see datasheet]", P10 TPB2- (io) "Port 2 twisted-pair differential signal. [see datasheet]", P11 TPB2+ (io) "Port 2 twisted-pair differential signal. [see datasheet]", P12 TPA2- (io) "Port 2 twisted-pair differential signal. [see datasheet]", P13 TPA2+ (io) "Port 2 twisted-pair differential signal. [see datasheet]"
part E pins: E1 R1 (in) "Current-setting resistor. These terminals are connected to a precision external resistance to set the internal operating currents and cable driver output currents.  [see datasheet]", F1 R0 (in) "Current-setting resistor. These terminals are connected to a precision external resistance to set the internal operating currents and cable driver output currents. [see datasheet]", F12 PD (in) "Power down. A high on this terminal turns off all internal circuitry, except the cable-active monitor circuits that control the CNA output. [see datasheet]", G1 RSVD (XO), G12 TESTM (in) "Test control. This input is used in the manufacturing test of the TSB83AA23. For normal use, this terminal must be pulled high through a 1-kW resistor to VDD.", H1 XI "Oscillator input. This terminal connects to a 98.304-MHz low-jitter external oscillator. XI is a 1.8-V CMOS input. Oscillator jitter must be 5-ps RMS or better.[see datasheet]", H12 ~{RESET} (in) "Logic reset. Asserting this terminal low resets the internal logic. [see datasheet]", J1 SM (in) "Test control. This input is used in the manufacturing test of the TSB83AA23. For normal use, this terminal must be pulled low either through a 1-kW resistor to GND or directly to GND.", J2 SE (in) "Test control. This input is used in the manufacturing test of the TSB83AA23. For normal use, this terminal must be pulled low either through a 1-kW resistor to GND or directly to GND.", K12 TESTW(VREG_PD) (in) "Test control. This input is used in the manufacturing test of the TSB83AA23. For normaluse, this terminal must be pulled high through a 1-kW resistor to VDD.", M11 MFUNC (io) "Multifunction. MFUNC is a multifunction terminal whose function is selected via the multifunction select register", M12 ~{G_RST} (in) "Global power reset. This reset brings all of the TSB83AA23 internal LLC-section registers to their default states, including those registers not reset by P\C\I\_\R\S\T\. [see datasheet]", N11 ~{REG_EN} (in) "Regulator enable. When this terminal is low, the internal 1.8-V regulator is enabled and generates the 1.8-V internal core voltage from the 3.3-V supply voltage. [see datasheet]", N12 SCL (io) "Serial clock. This terminal provides the SCL serial clock signaling. ROM is implemented: Connect terminal 3 to the SCL terminal on the ROM;  [see datasheet]", N13 SDA (io) "Serial data. This terminal provides the SDA serial data signaling. [see datasheet]", N14 ~{PCI_RST} (in) "PCI reset. [see datasheet]"
part F pins: E2 AVDD_33 (power) "Analog circuit power. A combination of high-frequency decoupling capacitors near each terminal is suggested, such as paralleled 0.1-mF and 0.001-mF. [see datasheet]", E6 DVDD_33 (power) "Digital 3.3-V circuit power. A combination of high-frequency decoupling capacitors near each terminal is suggested, such as paralleled 0.1-mF and 0.001-mF. [see datasheet]", E7 VCC  (power) "3.3-V power supply. A parallel combination of high-frequency decoupling capacitors near each terminal is suggested, such as 0.1-mF and 0.001-mF. [see datasheet]", E8 VCC  (power) "3.3-V power supply. A parallel combination of high-frequency decoupling capacitors near each terminal is suggested, such as 0.1-mF and 0.001-mF. [see datasheet]", E9 VCC  (power) "3.3-V power supply. A parallel combination of high-frequency decoupling capacitors near each terminal is suggested, such as 0.1-mF and 0.001-mF. [see datasheet]", E10 DVDD_33 (power) "Digital 3.3-V circuit power. A combination of high-frequency decoupling capacitors near each terminal is suggested, such as paralleled 0.1-mF and 0.001-mF. [see datasheet]", F3 PLLVDD_CORE (power) "PLL 1.95-V circuit power. A combination of high-frequency decoupling capacitors near each terminal is suggested, such as paralleled 0.1-mF and 0.001-mF. [see datasheet]", F5 DVDD_CORE (power) "Digital 1.95-V circuit power. A combination of high-frequency decoupling capacitors near each terminal is suggested, such as paralleled 0.1-mF and 0.001-mF. [see datasheet]", F10 DVDD_CORE (power) "Digital 1.95-V circuit power. A combination of high-frequency decoupling capacitors near each terminal is suggested, such as paralleled 0.1-mF and 0.001-mF. [see datasheet]", G3 PLLVDD_33 (power) "PLL 3.3-V circuit power. A combination of high-frequency decoupling capacitors near the terminal is suggested, such as paralleled 0.1-mF and 0.001-mF. [see datasheet]", G5 REG18 (power) "The REG18 terminals are connected to the internal 1.8-V LLC-section core voltage. They provide local bypass for the internal core voltage or to provide 1. [see datasheet]", G10 VCCP (power) "PCI signaling clamp voltage power. PCI signals are clamped to this power rail per the PCI Local Bus Specification. [see datasheet]", H5 VCCP (power) "PCI signaling clamp voltage power. PCI signals are clamped to this power rail per the PCI Local Bus Specification. [see datasheet]", H10 REG18 (power) "The REG18 terminals are connected to the internal 1.8-V LLC-section core voltage. [see datasheet]", J5 VCC (power) "3.3-V power supply. A parallel combination of high-frequency decoupling capacitors near each terminal is suggested, such as 0.1-mF and 0.001-mF. [see datasheet]", J6 VCC (power) "3.3-V power supply. A parallel combination of high-frequency decoupling capacitors near each terminal is suggested, such as 0.1-mF and 0.001-mF. [see datasheet]", K5 AVDD_33 (power) "Analog circuit power. A combination of high-frequency decoupling capacitors near each terminal is suggested, such as paralleled 0.1-mF and 0.001-mF. [see datasheet]", K6 AVDD_33 (power) "Analog circuit power. A combination of high-frequency decoupling capacitors near each terminal is suggested, such as paralleled 0.1-mF and 0.001-mF. [see datasheet]", K7 VCC (power) "3.3-V power supply. A parallel combination of high-frequency decoupling capacitors near , each terminal is suggested, such as 0.1-mF and 0.001-mF. [see datasheet]", K8 VCC (power) "3.3-V power supply. A parallel combination of high-frequency decoupling capacitors near , each terminal is suggested, such as 0.1-mF and 0.001-mF. [see datasheet]", K9 AVDD_33 (power) "Analog circuit power. A combination of high-frequency decoupling capacitors near each terminal is suggested, such as paralleled 0.1-mF and 0.001-mF. [see datasheet]", K10 AVDD_33 (power) "Analog circuit power. A combination of high-frequency decoupling capacitors near each terminal is suggested, such as paralleled 0.1-mF and 0.001-mF. [see datasheet]"
part G pins: F2 PLLGND (power) "PLL circuit ground. These terminals must be tied together to the low-impedancecircuit-board ground plane.", F6 GND (power) "Ground. These terminals must be tied together to the low-impedance circuit-board ground plane", F7 GND (power) "Ground. These terminals must be tied together to the low-impedance circuit-board ground plane", F8 GND (power) "Ground. These terminals must be tied together to the low-impedance circuit-board ground plane", F9 GND (power) "Ground. These terminals must be tied together to the low-impedance circuit-board ground plane", G6 GND (power) "Ground. These terminals must be tied together to the low-impedance circuit-board ground plane", G7 GND (power) "Ground. These terminals must be tied together to the low-impedance circuit-board ground plane", G8 GND (power) "Ground. These terminals must be tied together to the low-impedance circuit-board ground plane", G9 GND (power) "Ground. These terminals must be tied together to the low-impedance circuit-board ground plane", H6 GND (power) "Ground. These terminals must be tied together to the low-impedance circuit-board ground plane", H7 GND (power) "Ground. These terminals must be tied together to the low-impedance circuit-board ground plane", H8 GND (power) "Ground. These terminals must be tied together to the low-impedance circuit-board ground plane", H9 GND (power) "Ground. These terminals must be tied together to the low-impedance circuit-board ground plane", J3 GND (power) "Ground. These terminals must be tied together to the low-impedance circuit-board ground plane", J7 GND (power) "Ground. These terminals must be tied together to the low-impedance circuit-board ground plane", J8 GND (power) "Ground. These terminals must be tied together to the low-impedance circuit-board ground plane", J9 GND (power) "Ground. These terminals must be tied together to the low-impedance circuit-board ground plane", J10 GND (power) "Ground. These terminals must be tied together to the low-impedance circuit-board ground plane", K1 GND (power) "Ground. These terminals must be tied together to the low-impedance circuit-board ground plane", K2 GND (power) "Ground. These terminals must be tied together to the low-impedance circuit-board ground plane", K3 GND (power) "Ground. These terminals must be tied together to the low-impedance circuit-board ground plane", N1 GND (power) "Ground. These terminals must be tied together to the low-impedance circuit-board ground plane", N2 GND (power) "Ground. These terminals must be tied together to the low-impedance circuit-board ground plane", N3 GND (power) "Ground. These terminals must be tied together to the low-impedance circuit-board ground plane", N4 GND (power) "Ground. These terminals must be tied together to the low-impedance circuit-board ground plane", N5 GND (power) "Ground. These terminals must be tied together to the low-impedance circuit-board ground plane", N6 GND (power) "Ground. These terminals must be tied together to the low-impedance circuit-board ground plane", N7 GND (power) "Ground. These terminals must be tied together to the low-impedance circuit-board ground plane", N8 GND (power) "Ground. These terminals must be tied together to the low-impedance circuit-board ground plane", N9 GND (power) "Ground. These terminals must be tied together to the low-impedance circuit-board ground plane", N10 GND (power) "Ground. These terminals must be tied together to the low-impedance circuit-board ground plane", P1 GND (power) "Ground. These terminals must be tied together to the low-impedance circuit-board ground plane"